# Altium schematic symbol library SchlibOtherE.SchLib: 19 symbols
Pins are listed as number, name and electrical type; pins without a type are passive.

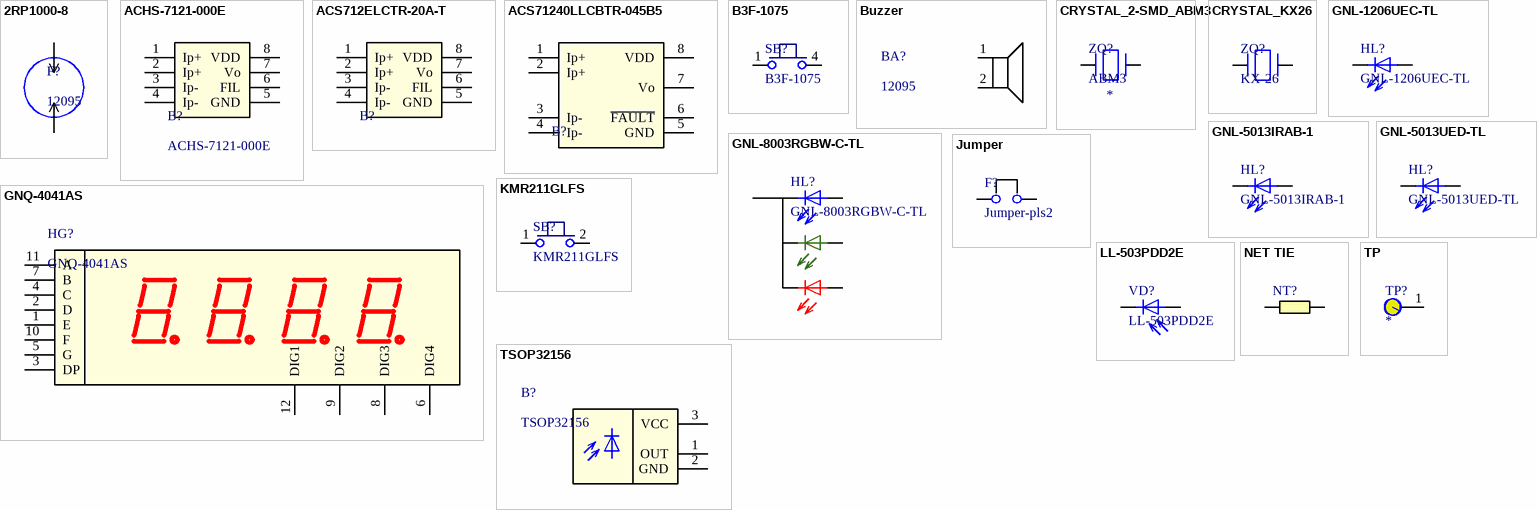
[diagram p0: symbols 2RP1000-8 to TSOP32156]

## 2RP1000-8
designator F?, comment 12095
2RP1000-8; Power: 3.3V; Type: buzzer; Part Number: 12095; Price: 0,41; Documentation: https://belchip.by/sitedocs/b3f.pdf
footprint 2RP1000-8
pins: 1, 2

## ACHS-7121-000E
designator B?
Current Sensor 10A Channel Hall Effect Bidirectional 8-SOIC (0.154", 3.90mm Width); Manufacturer: Broadcom Limited; Power: 80kHz,	4.5 V ~ 5.5 V; Tolerance: ±0.18%; Part Number: ACHS-7121-000E; Package: 8-SOIC; Price: 0,7; Documentation: https://www.digikey.com/product-detail/en/broadcom-limited/ACHS-7121-000E/516-4080-ND/9178254; ShoppingPlace: https://www.digikey.com/product-detail/en/broadcom-limited/ACHS-7121-000E/516-4080-ND/9178254; Quantity: 1; Type: Sensor; Value: 10A
footprint 8-SOIC
pins: 1 Ip+, 2 Ip+, 3 Ip-, 4 Ip-, 5 GND, 6 FIL, 7 Vo, 8 VDD

## ACS712ELCTR-20A-T
designator B?  (value not drawn)
Current Sensor 20A 1 Channel Hall Effect, Open Loop Bidirectional 8-SOIC (0.154", 3.90mm Width); Manufacturer: Allegro MicroSystem; Tolerance: ±0.18%; ValueDesc: Датчик тока ACS712ELCTR-20A-T  8-SOIC 20A Allegro MicroSystem; Part Number: ACS712ELCTR-20A-T; Package: 8-SOIC; Price: 4,34; Documentation: https://www.allegromicro.com/~/media/Files/Datasheets/ACS712-Datasheet.ashx; ShoppingPlace: https://www.digikey.com/products/en/sensors-transducers/current-sensors/525?k=ACS712&k=&pkeyword=ACS712&sv=0&pv52=2&sf=1&FV=ffe0020d&quantity=&ColumnSort=0&page=1&stock=1&pageSize=25; Power: 20A; Quantity: 1; Type: Sensor; Value: ACS712ELCTR-20A-T; ComponentLink1Description: Allegro datasheet; ComponentLink1URL: https://www.allegromicro.com/~/media/Files/Datasheets/ACS712-Datasheet.ashx
footprint 8-SOIC
pins: 1 Ip+, 2 Ip+, 3 Ip-, 4 Ip-, 5 GND, 6 FIL, 7 Vo, 8 VDD

## ACS71240LLCBTR-045B5
designator B?  (value not drawn)
Current Sensor 45A 1 Channel Hall Effect, Open Loop Bidirectional 8-SOIC (0.154", 3.90mm Width); Manufacturer: Allegro MicroSystem; Power: 120kHz,	12mA,4.5 V ~ 5.5 V; Tolerance: ±1%; ValueDesc: ACS71240LLCBTR-045B5 45A  8-SOIC+Power+ Allegro MicroSystem; Part Number: ACS71240LLCBTR-045B5; Package: 8-SOIC; Price: 4,34; Documentation: https://www.allegromicro.com/~/media/Files/Datasheets/ACS712-Datasheet.ashx; ShoppingPlace: https://www.digikey.com/product-detail/en/allegro-microsystems-llc/ACS71240LLCBTR-045B5/620-2053-6-ND/10146712; Quantity: 1; Type: Sensor; Value: 45A; ComponentLink1Description: Allegro datasheet; ComponentLink1URL: https://www.allegromicro.com/~/media/Files/Datasheets/ACS712-Datasheet.ashx
footprint 8-SOIC
pins: 1 Ip+, 2 Ip+, 3 Ip-, 4 Ip-, 5 GND, 6 ~{FAULT}, 7 Vo, 8 VDD

## B3F-1075
designator SB?
B3F-1075 / 6x6x9.5 (T103); Manufacturer: OMRON; Power: 100 μA to 50 mA, 3 to 24 VDC; Tolerance: 100mOm; Part Number: B3F-1075; Package: 6x6x9.5; Price: 0,41; Documentation: https://belchip.by/sitedocs/b3f.pdf; ShoppingPlace: https://belchip.by/product/?selected_product=14208; Type: Switch
footprint B3F-1075 (6x6x9.5)
pins: 1, 4

## Buzzer
designator BA?, comment 12095
Power: 3.3V; Part Number: 12095; Price: 0,41; Documentation: https://belchip.by/sitedocs/b3f.pdf; Type: buzzer
footprint 12095 (12*9,5)
pins: 1, 2

## CRYSTAL_2-SMD_ABM3
designator ZQ?, comment ABM3
CONN HEADER 2POS VERT .250 TIN; Manufacturer: Abracon LLC; Power: -40°C ~ 85°C; ValueDesc: ABM3  Кварцевый генератор 2-SMD (5.00x3.20mm)  * Гц -40°C ~ 85°C; Part Number: ABM3; Package: 2-SMD (5.00x3.20mm); Documentation: http://www.abracon.com/Resonators/abm3.pdf; ShoppingPlace: https://www.digikey.com/products/en/crystals-oscillators-resonators/crystals/171?k=ABM3; Quantity: 1; Tolerance: -40°C ~ 85°C; Type: CRYSTAL; ValueManufacturerPartNumber: ABM3; Value: *
footprint Crystal_2-SMD_(5.0X3.2) (Crystal (5.00mm x 3.20mm))
pins: 1, 2

## CRYSTAL_KX26
designator ZQ?, comment KX-26
Резонатор кварцевый часовой 32.768 кГц KX-26T / 2х6.2, Темп. диапазон: -40/+85С Стаб. частоты +/- 30ррm.; Manufacturer: GEYER; Power: -40°C ~ 85°C; Part Number: KX-26; Package: 2 x 6 mm; Documentation: https://belchip.by/sitedocs/18329.pdf; ShoppingPlace: https://belchip.by/product/?selected_product=18329; Quantity: *; Value: KX-26; Tolerance: -40°C ~ 85°C
footprint Crystal(2x6)
pins: 1, 2

## GNL-1206UEC-TL
designator HL?
CONN HEADER 2POS VERT .250 TIN; Manufacturer: G-NOR; Power: 200мкд; Value: 30mA,2.1V; Type: LED; Part Number: GNL-1206UEC-TL; Package: 1206; Price: 0,14; Documentation: https://belchip.by/sitedocs/gnl1206.pdf; ShoppingPlace: https://belchip.by/product/?selected_product=32298; Quantity: *; ValueDesc: =ValuePartNumberManufacturer+'  '+Value+'  '+Manufacturer; ValuePartNumberManufacturer: ='Part Number'
footprint LED-1206
pins: 1, 2

## GNL-5013IRAB-1
designator HL?
Manufacturer: G-NOR; Power: 900мкд; Value: 30mA,1.6V; Part Number: GNL-5013IRAB-1; Package: 2.54; Price: 0,7; Documentation: https://www.rcscomponents.kiev.ua/datasheets/5013IRXX.pdf; ShoppingPlace: https://belchip.by/product/?selected_product=04324; Quantity: *
footprint GNL-5013 (5.9mmx5.9mmx10mm 2.54mm)
pins: 1, 2

## GNL-5013UED-TL
designator HL?
Manufacturer: G-NOR; Power: 900мкд; Value: 30mA,2.1V; Part Number: GNL-5013UED-TL; Package: 2.54; Price: 0,7; Documentation: https://belchip.by/sitedocs/gnl1206.pdf; ShoppingPlace: https://belchip.by/product/?selected_product=00843; Quantity: *
footprint GNL-5013 (5.9mmx5.9mmx10mm 2.54mm)
pins: 1, 2

## GNL-8003RGBW-C-TL
designator HL?
Светодиод многоцветный GNL-8003RGBW-C-TL / RGB, общий катод,30mA; Manufacturer: G-NOR; Power: 900мкд; Value: 30mA,1.6V; ValueDesc: GNL-8003RGBW-C-TL  30mA,1.6V  G-NOR; Part Number: GNL-8003RGBW-C-TL; Package: 2.54; Price: 0,7; Documentation: https://www.rcscomponents.kiev.ua/datasheets/5013IRXX.pdf; ShoppingPlace: https://belchip.by/product/?selected_product=05288; Quantity: *; ComponentLink1Description: GNOR Electronics; ComponentLink1URL: https://belchip.by/sitedocs/svetodiody/multi_svetodiody/GNOR%208003RGBxx.pdf; ValuePartNumberManufacturer: GNL-8003RGBW-C-TL
footprint GNL-8003RGBW-C-TL (9.15mm x 11mm x 30mm)
pins: 1, 2, 3, 4

## GNQ-4041AS
designator HG?
GNQ-4041AS 40.6х16; Manufacturer: G-NOR; Power: 660 um; Value: 30mA,2.1V; Tolerance: красный; Part Number: GNQ-4041AS; Package: 40.6х16; Price: 1,33; Documentation: https://belchip.by/sitedocs/gnq4041.pdf; ShoppingPlace: https://belchip.by/product/?selected_product=32298; Quantity: *
footprint GNQ-4041AS (40.6х16)
pins: 1 E, 2 D, 3 DP, 4 C, 5 G, 6 DIG4, 7 B, 8 DIG3, 9 DIG2, 10 F, 11 A, 12 DIG1

## Jumper
designator F?, comment Jumper-pls2
2RP1000-8; Manufacturer: china; Power: 25V 3A; Type: Jumper; Part Number: Jumper-pls2; Package: 2.54mm; Price: 0,09; Documentation: https://belchip.by/sitedocs/b3f.pdf; ShoppingPlace: https://belchip.by/product/?selected_product=30378; Quantity: 1
footprint Jumper
pins: 1, 2

## KMR211GLFS
designator SB?
4.2x2.8x1.9мм; Manufacturer: CK COMPONENTS; Power: 32VDC,  50mA; Tolerance: 100mOm; Part Number: KMR211GLFS; Package: 4.2x2.8x1.9мм; Price: 0,7; Documentation: https://belchip.by/sitedocs/33971.pdf; ShoppingPlace: https://belchip.by/product/?selected_product=33971; Type: Switch
footprint KMR211GLFS (4.2x2.8x1.9mm)
pins: 1, 2

## LL-503PDD2E
designator VD?
Фотодиод LL-503PDD2E; Manufacturer: LUCKY LIGHT; Power: 940нм; Part Number: LL-503PDD2E; Package: LL-503PDD2E; Price: 0,15; Documentation: https://belchip.by/sitedocs/00015999.pdf; ShoppingPlace: https://belchip.by/product/?selected_product=15999; Quantity: *
footprint LL-503PDD2E (5.9mmx5.9mmx10mm 2.54mm)
pins: 1, 2

## NET TIE
designator NT?  (net tie, no BOM)
footprint NET_TIE
pins: 1, 2

## TP
designator TP?
test_point
footprint Test_Point
pins: 1

## TSOP32156
designator B?
Remote Receiver Sensor, 56.0kHz 45m Through Hole; Manufacturer: VISHAY; Power: 56.0kHz 45m,2.5V ~ 5.5V; Tolerance: ±0.18%; Part Number: TSOP32156; Package: Through Hole; Price: 0,7; Documentation: https://belchip.by/sitedocs/00010215.pdf; ShoppingPlace: https://belchip.by/product/?selected_product=10215; Quantity: 1; Type: PhotoElement; Value: 45m
footprint TSOP17xx (2.54mm pitch)
pins: 1 OUT, 2 GND, 3 VCC